# EAGLE library part HMC5883L (library Mebius)
Triple-axis Magnetometer (Compass) Board - HMC5883L
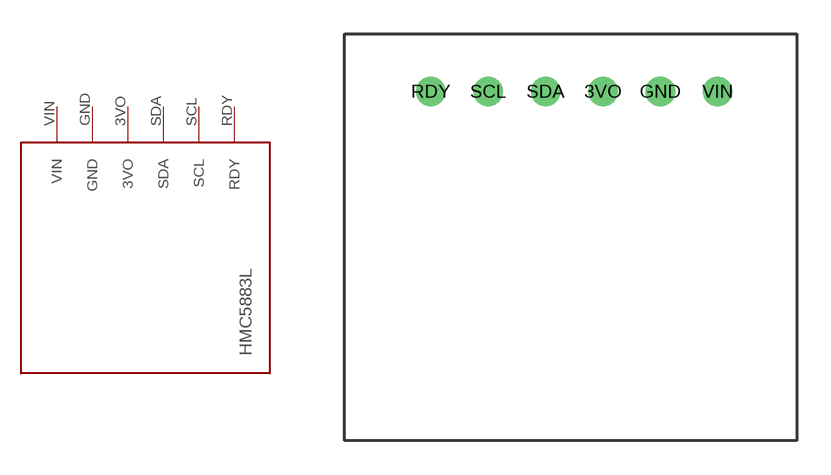
[diagram p2: symbol with the pads of HMC5883L; footprint HMC5883L]

Designator prefix -

## HMC5883L  [HMC5883L]
3VO  3VO
GND  GND
RDY  RDY
SCL  SCL
SDA  SDA
VIN  VIN

## Footprint HMC5883L (pad centres in mm)
drill 0.8: 3VO 1.27,6.35; GND 3.81,6.35; RDY -6.35,6.35; SCL -3.81,6.35; SDA -1.27,6.35; VIN 6.35,6.35